# Altium footprint library quadrotor.PcbLib: 17 footprints (part 1 of 2)
Each footprint in its own frame and in the unit in brackets; x right, y up, seen from the top. Pads: shape width x height; smd on the part's side, far side on the other; paste and mask are expansions set on the pad; w line width, h text height; cw(c..) or ccw(c..) is an arc to the next point about the centre after c.
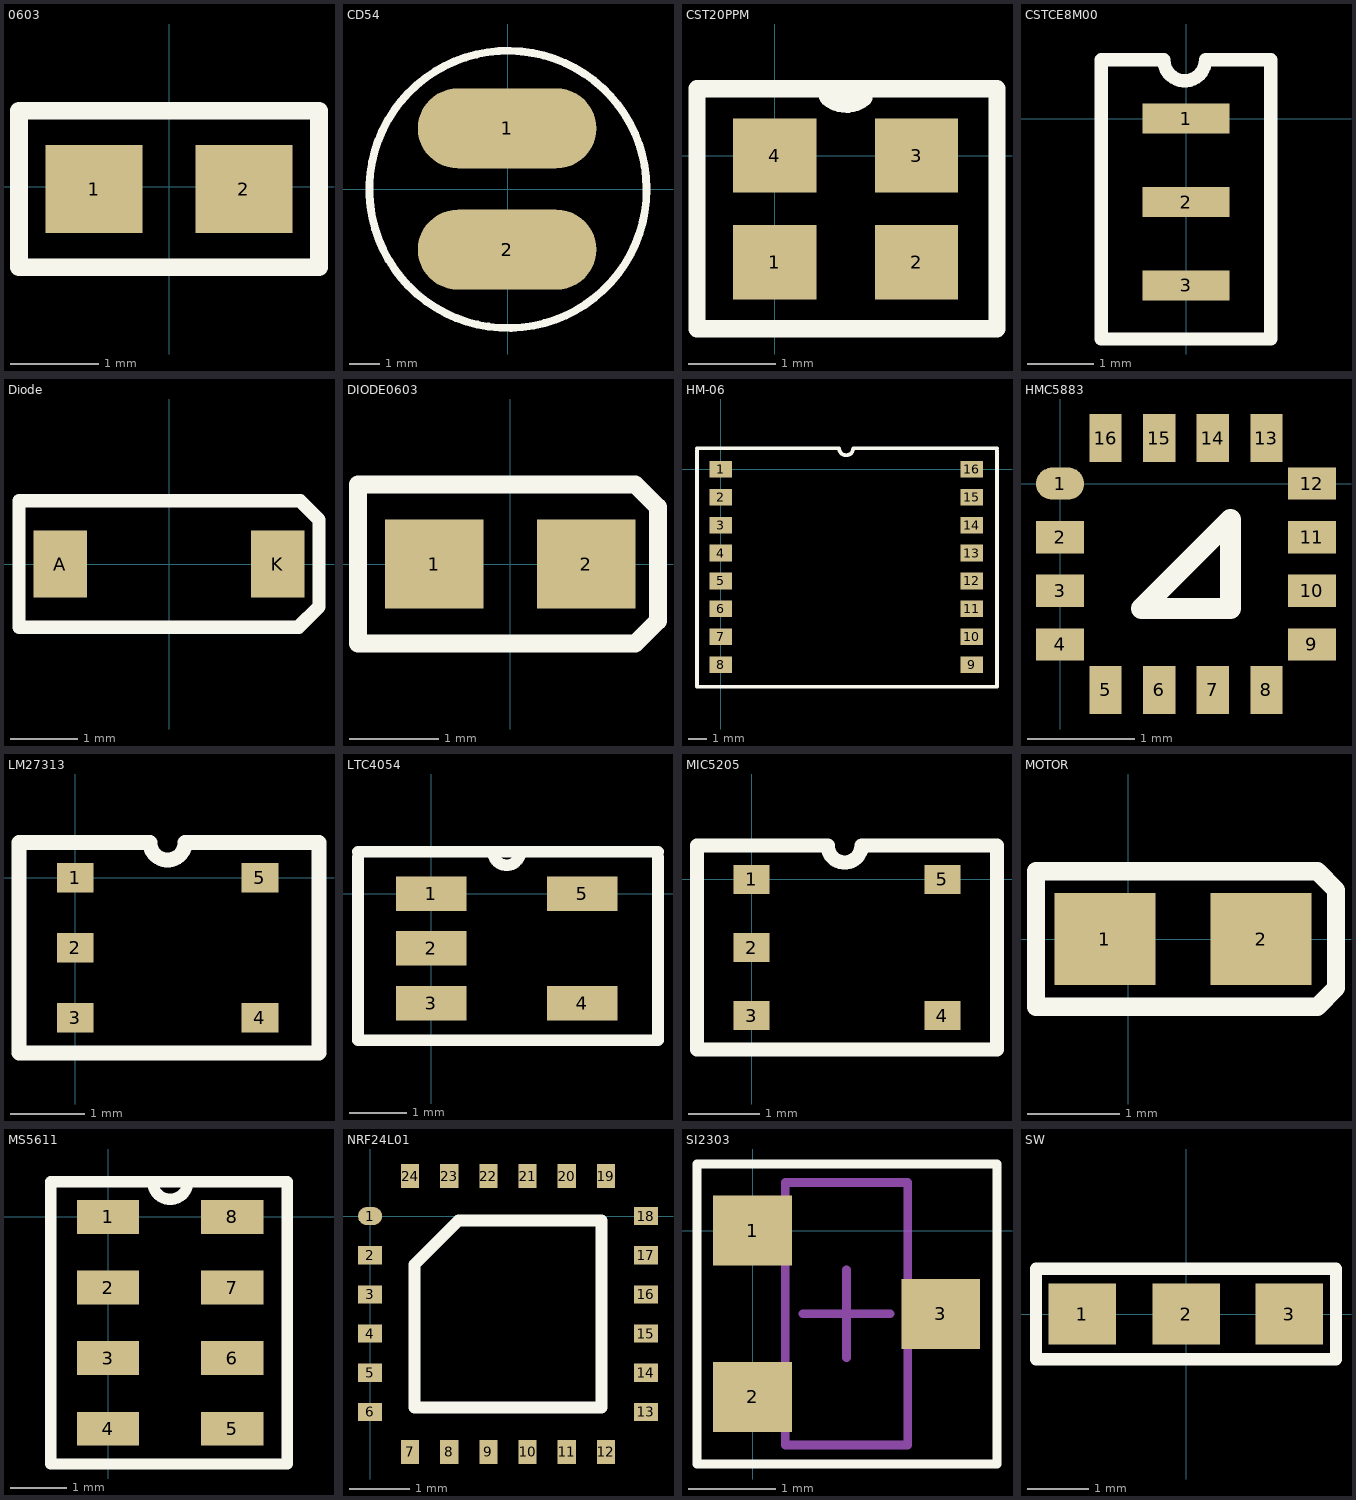
[diagram p0: the footprints below, top view; thin cyan lines are the x and y axes]

## 0603 [mm]
pads (2):
  rect 1.1x1 smd: 1(-0.85,-0.025) 2(0.85,-0.025)
Top Overlay:
  lines w0.2: -1.702,-0.025 -1.702,0.864 1.702,0.864 1.702,-0.914 -1.702,-0.914 -1.702,0.152

## CD54 [mm]
pads (2):
  oval 5.8x2.6 smd: 1(-0.016,1.981) 2(-0.016,-1.956)
Top Overlay:
  lines w0.254: 4.513,0 cw(c0.013,0) 4.513,0.029

## CST20PPM [mm]
pads (4):
  rect 0.95x0.85 smd: 1(0,-1.22) 2(1.62,-1.22) 3(1.62,0) 4(0,0)
Top Overlay:
  lines w0.2: 0.505,0.762 2.54,0.762 2.54,-1.981 -0.889,-1.981 -0.889,0.762 1.115,0.762 ; 0.605,0.669 ccw(c0.816,0.902) 1.016,0.66

## CSTCE8M00 [mm]
pads (3):
  rect 1.3x0.45 smd: 1(0,0) 2(0,-1.25) 3(0,-2.5)
Top Overlay:
  lines w0.2: -1.27,-3.302 -1.27,0.879 -0.332,0.879 ccw(c-0.02,0.879) 0.292,0.879 1.27,0.879 1.27,-3.302 -1.27,-3.302

## Diode [mm]
pads (2):
  rect 0.8x1 smd: A(-1.62,0) K(1.62,0)
Top Overlay:
  lines w0.2: -2.235,0 -2.235,0.94 1.956,0.94 2.235,0.66 2.235,-0.635 1.93,-0.94 -2.235,-0.94 -2.235,0.178

## DIODE0603 [mm]
pads (2):
  rect 1.1x1 smd: 1(-0.85,0) 2(0.85,0)
Top Overlay:
  lines w0.2: -1.702,0 -1.702,0.889 1.397,0.889 1.651,0.635 1.651,-0.635 1.397,-0.889 -1.702,-0.889 -1.702,0.178

## HM-06 [mm]
pads (16):
  rect 1.2x0.9 smd: 1(0,0) 2(0,-1.5) 3(0,-3) 4(0,-4.5) 5(0,-6) 6(0,-7.5) 7(0,-9) 8(0,-10.5) 9(13.5,-10.5) 10(13.5,-9) 11(13.5,-7.5) 12(13.5,-6) 13(13.5,-4.5) 14(13.5,-3) 15(13.5,-1.5) 16(13.5,0)
Top Overlay:
  lines w0.2: -1.27,1.016 -1.27,-11.684 14.859,-11.684 14.859,1.016 ; -1.27,1.131 6.375,1.131 ccw(c6.75,1.131) 7.125,1.131 14.859,1.131

## HMC5883 [mm]
pads (16):
  oval 0.45x0.3 smd: 1(0,0)
  rect 0.45x0.3 smd: 2(0,-0.5) 3(0,-1) 4(0,-1.5) 9(2.35,-1.5) 10(2.35,-1) 11(2.35,-0.5) 12(2.35,0)
  rect 0.3x0.45 smd: 5(0.425,-1.925) 6(0.925,-1.925) 7(1.425,-1.925) 8(1.925,-1.925) 13(1.925,0.425) 14(1.425,0.425) 15(0.925,0.425) 16(0.425,0.425)
Top Overlay:
  lines w0.2: 0.76,-1.165 1.59,-1.165 1.59,-0.335 0.76,-1.165

## LM27313 [mm]
pads (5):
  rect 0.5x0.4 smd: 1(0,0) 2(0,-0.95) 3(0,-1.9) 4(2.5,-1.9) 5(2.5,0)
Top Overlay:
  lines w0.2: -0.762,-2.375 3.302,-2.375 3.302,0.475 1.488,0.475 cw(c1.25,0.475) 1.012,0.475 -0.762,0.475 -0.762,-2.375

## LTC4054 [mm]
pads (5):
  rect 1.22x0.6 smd: 1(0,0) 2(0,-0.95) 3(0,-1.9) 4(2.62,-1.9) 5(2.62,0)
Top Overlay:
  lines w0.2: -1.27,0.635 -1.27,-2.54 3.937,-2.54 3.937,0.635 ; -1.27,0.729 1.548,0.729 cw(c1.31,0.729) 1.072,0.729 3.937,0.729

## MIC5205 [mm]
pads (5):
  rect 0.5x0.4 smd: 1(0,0) 2(0,-0.95) 3(0,-1.9) 4(2.667,-1.9) 5(2.667,0)
Top Overlay:
  lines w0.2: -0.762,-2.375 -0.762,0.475 1.062,0.475 ccw(c1.3,0.475) 1.538,0.475 3.429,0.475 3.429,-2.375 -0.762,-2.375

## MOTOR [mm]
pads (2):
  rect 1.1x1 smd: 1(-0.254,0) 2(1.446,0)
Top Overlay:
  lines w0.2: -1.004,0 -1.004,0.737 2.057,0.737 2.261,0.533 2.261,-0.533 2.057,-0.737 -1.004,-0.737 -1.004,0.178

## MS5611 [mm]
pads (8):
  rect 1.1x0.6 smd: 1(0,0) 2(0,-1.25) 3(0,-2.5) 4(0,-3.75) 5(2.2,-3.75) 6(2.2,-2.5) 7(2.2,-1.25) 8(2.2,0)
Top Overlay:
  lines w0.2: -1.016,-4.375 -1.016,0.625 1.412,0.625 cw(c1.1,0.625) 0.788,0.625 3.175,0.625 3.175,-4.375 -1.016,-4.375

## NRF24L01 [mm]
pads (24):
  oval 0.4x0.3 smd: 1(0,0)
  rect 0.4x0.3 smd: 2(0,-0.65) 3(0,-1.3) 4(0,-1.95) 5(0,-2.6) 6(0,-3.25) 13(4.58,-3.25) 14(4.58,-2.6) 15(4.58,-1.95) 16(4.58,-1.3) 17(4.58,-0.65) 18(4.58,0)
  rect 0.3x0.4 smd: 7(0.665,-3.915) 8(1.315,-3.915) 9(1.965,-3.915) 10(2.615,-3.915) 11(3.265,-3.915) 12(3.915,-3.915) 19(3.915,0.665) 20(3.265,0.665) 21(2.615,0.665) 22(1.965,0.665) 23(1.315,0.665) 24(0.665,0.665)
Top Overlay:
  lines w0.2: 0.735,-3.18 0.735,-0.805 1.47,-0.07 3.845,-0.07 3.845,-3.18 0.735,-3.18

## SI2303 [mm]
pads (3):
  rect 0.9x0.8 smd: 1(0,0) 2(0,-1.9) 3(2.15,-0.95)
Top Overlay:
  lines w0.1: -0.635,-2.667 -0.635,0.762 2.794,0.762 2.794,-2.667 -0.635,-2.667
Mechanical 13:
  lines w0.1: 0.375,-2.45 1.775,-2.45 1.775,0.55 0.375,0.55 0.375,-2.45
Mechanical 15:
  lines w0.1: 0.575,-0.95 1.575,-0.95 ; 1.075,-1.45 1.075,-0.45
3D body: height 1.1, standoff 0, extent 0.375,-2.45 1.775,0.55

## SW [mm]
height 12
pads (3):
  rect 1.1x1 smd: 1(-1.702,0) 2(-0.002,0) 3(1.676,0)
Top Overlay:
  lines w0.2: -2.452,0 -2.452,0.737 2.413,0.737 ; -2.452,0.178 -2.452,-0.737 2.438,-0.737 2.438,0.737